# EAGLE library part LSM6DSL (library (custom)-new-components)
The LSM6DSL is a system-in-package featuring a 3D digital accelerometer and a 3D digital gyroscope
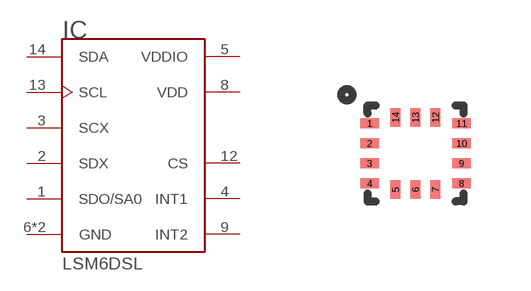
[diagram p8: symbol with the pads of LGA14R35P5X6_200X200X100; footprint LGA14R35P5X6_200X200X100]

Designator prefix IC

## LSM6DSL  [LGA14R35P5X6_200X200X100]
1  SDO/SA0
2  SDX
3  SCX
4  INT1
5  VDDIO  pwr
6  GND  pwr
7  GND  pwr
8  VDD  pwr
9  INT2
12  CS
13  SCL
14  SDA

## Footprint LGA14R35P5X6_200X200X100 (pad centres in mm)
smd 0.47 x 0.25: 1 -1.15,0.75; 2 -1.15,0.25; 3 -1.15,-0.25; 4 -1.15,-0.75; 8 1.15,-0.75; 9 1.15,-0.25; 10 1.15,0.25; 11 1.15,0.75
smd 0.25 x 0.47: 5 -0.5,-0.9; 6 0,-0.9; 7 0.5,-0.9; 12 0.5,0.9; 13 0,0.9; 14 -0.5,0.9